# EAGLE library part 310080009_WM8960GEFL (library Seeed-OPL-2017-01-IC-Akita)
Wolfson;WM8960GEFL, SMD IC Codecoder;QFN-32, SKU: 310080009
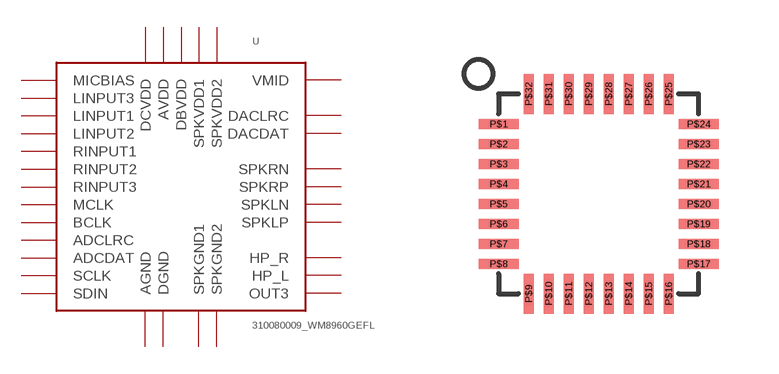
[diagram p7: symbol with the pads of QFN32; footprint QFN32]

Designator prefix -

## 310080009_WM8960GEFL  [QFN32]
P$1  MICBIAS
P$2  LINPUT3
P$3  LINPUT2
P$4  LINPUT1
P$5  RINPUT1
P$6  RINPUT2
P$7  RINPUT3
P$8  DCVDD  pwr
P$9  DGND  pwr
P$10  DBVDD  pwr
P$11  MCLK
P$12  BCLK
P$13  DACLRC
P$14  DACDAT
P$15  ADCLRC
P$16  ADCDAT
P$17  SCLK
P$18  SDIN
P$19  SPKRN
P$20  SPKGND2  pwr
P$21  SPKVDD2  pwr
P$22  SPKRP
P$23  SPKLN
P$24  SPKGND1  pwr
P$25  SPKLP
P$26  SPKVDD1  pwr
P$27  VMID  pwr
P$28  AGND  pwr
P$29  HP_R
P$30  OUT3
P$31  HP_L
P$32  AVDD  pwr

## Footprint QFN32 (pad centres in mm)
QFN32
smd 1 x 0.25: P$1 -2.5,1.75; P$2 -2.5,1.25; P$3 -2.5,0.75; P$4 -2.5,0.25; P$5 -2.5,-0.25; P$6 -2.5,-0.75; P$7 -2.5,-1.25; P$8 -2.5,-1.75; P$17 2.5,-1.75; P$18 2.5,-1.25; P$19 2.5,-0.75; P$20 2.5,-0.25; P$21 2.5,0.25; P$22 2.5,0.75; P$23 2.5,1.25; P$24 2.5,1.75
smd 0.25 x 1: P$9 -1.75,-2.5; P$10 -1.25,-2.5; P$11 -0.75,-2.5; P$12 -0.25,-2.5; P$13 0.25,-2.5; P$14 0.75,-2.5; P$15 1.25,-2.5; P$16 1.75,-2.5; P$25 1.75,2.5; P$26 1.25,2.5; P$27 0.75,2.5; P$28 0.25,2.5; P$29 -0.25,2.5; P$30 -0.75,2.5; P$31 -1.25,2.5; P$32 -1.75,2.5